# Altium schematic symbol library YAGEO-MLCC-NPO-0805.SchLib: 4 symbols
Pins are listed as number, name and electrical type; pins without a type are passive.

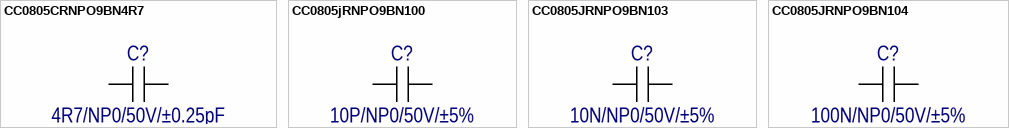
[diagram p0: symbols CC0805CRNPO9BN4R7 to CC0805JRNPO9BN104]

## CC0805CRNPO9BN4R7
designator C?  value 4R7/NP0/50V/±0.25pF  (hidden comment: *)
Ceramic Capacitor SMD 0805; MountingValue: 4.7pF
footprint Normal_Capacitor_Standard_0805-L2000-W1250-BW500-H650
pins: 1, 2

## CC0805jRNPO9BN100
designator C?  value 10P/NP0/50V/±5%  (hidden comment: *)
Ceramic Capacitor SMD 0805; MountingValue: 10pF
footprint Normal_Capacitor_Standard_0805-L2000-W1250-BW500-H650
pins: 1, 2

## CC0805JRNPO9BN103
designator C?  value 10N/NP0/50V/±5%  (hidden comment: *)
Ceramic Capacitor SMD 0805; MountingValue: 10pF
footprint Normal_Capacitor_Standard_0805-L2000-W1250-BW500-H650
pins: 1, 2

## CC0805JRNPO9BN104
designator C?  value 100N/NP0/50V/±5%  (hidden comment: *)
Ceramic Capacitor SMD 0805; MountingValue: 10pF
footprint Normal_Capacitor_Standard_0805-L2000-W1250-BW500-H650
pins: 1, 2